# Altium footprint library Murata.PcbLib: 1 footprints
Each footprint in its own frame and in the unit in brackets; x right, y up, seen from the top. Pads: shape width x height; smd on the part's side, far side on the other; paste and mask are expansions set on the pad; w line width, h text height; cw(c..) or ccw(c..) is an arc to the next point about the centre after c.
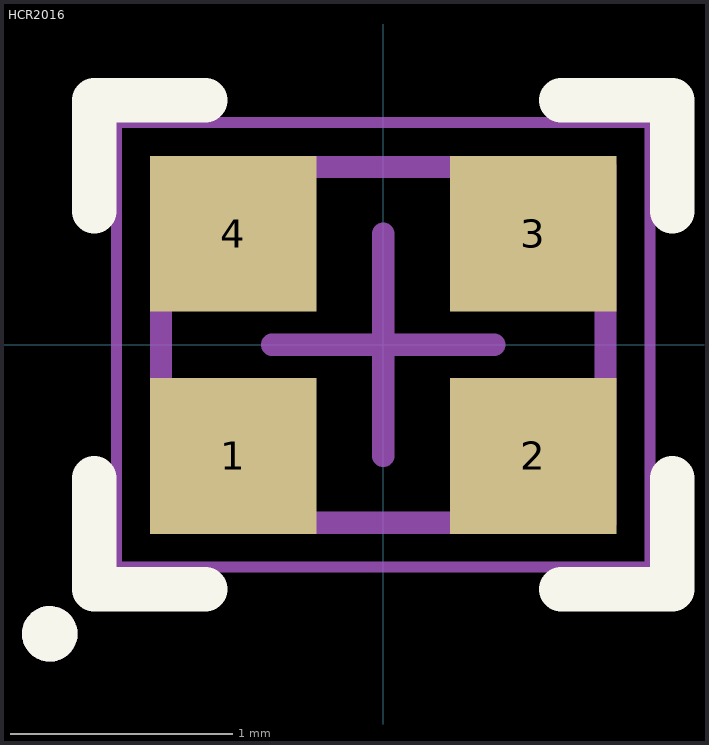
[diagram p0: the footprint, top view; thin cyan lines are the x and y axes]

## HCR2016 [mm]
pads (4):
  rect 0.75x0.7 smd: 1(-0.675,-0.5) 2(0.675,-0.5) 3(0.675,0.5) 4(-0.675,0.5)
Top Overlay:
  circle w0.125: c-1.5,-1.3 r0.062
  lines w0.2: -1.3,-0.6 -1.3,-1.1 -0.8,-1.1 ; -1.3,0.6 -1.3,1.1 -0.8,1.1 ; 0.8,-1.1 1.3,-1.1 1.3,-0.6 ; 0.8,1.1 1.3,1.1 1.3,0.6
Top 3D Body:
  circle w0.125: c-1.5,-1.3 r0.062
  lines w0.1: -1,-0.8 -1,0.8 1,0.8 1,-0.8 -1,-0.8
Top Assembly (Mech15):
  lines w0.05: -1.2,-1 1.2,-1 1.2,1 -1.2,1 -1.2,-1
  lines w0.1: -0.5,0 0.5,0 ; 0,-0.5 0,0.5
3D body: height 0.7, standoff 0, extent -1,-0.8 1,0.8